# Altium integrated library ADC.IntLib: 2 symbols
Pins are listed as number, name and electrical type; pins without a type are passive.

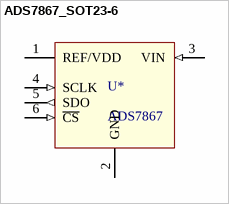
[diagram p0: symbol ADS7867_SOT23-6]

## ADS7867_SOT23-6
designator U*, comment ADS7867
ADC 10BIT 240KSPS SOT23-6; Supplier 1: Digi-Key; Supplier Part Number 1: 296-18217-1-ND
footprint SOT95P280X145-6N (SOT23, 6-Leads, Body 2.90x2.80mm, Pitch 0.95mm, IPC Medium Density)
pins: 1 REF/VDD (power), 2 GND (power), 3 VIN (in), 4 SCLK (in), 5 SDO (out), 6 ~{CS} (in)


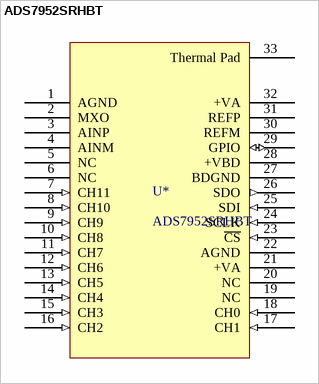
[diagram p1: symbol ADS7952SRHBT]

## ADS7952SRHBT
designator U*
Digikey: 296-25843-1-ND -- 12 Bit Analog to Digital Converter 12 Input 1 SAR 32-VQFN (5x5)
footprint ADS7952SRHBT (Footprint not found)
pins: 1 AGND, 2 MXO, 3 AINP, 4 AINM, 5 NC, 6 NC (hiz), 7 CH11 (in), 8 CH10 (in), 9 CH9 (in), 10 CH8 (in), 11 CH7 (in), 12 CH6 (in), 13 CH5 (in), 14 CH4 (in), 15 CH3 (in), 16 CH2 (in), 17 CH1 (in), 18 CH0 (in), 19 NC (hiz), 20 NC (hiz), 21 +VA, 22 AGND, 23 ~{CS} (in), 24 SCLK (in), 25 SDI (in), 26 SDO (out), 27 BDGND, 28 +VBD, 29 GPIO (io), 30 REFM, 31 REFP, 32 +VA, 33 Thermal Pad